# Altium schematic symbol library Schlib.SchLib: 11 symbols
Pins are listed as number, name and electrical type; pins without a type are passive.

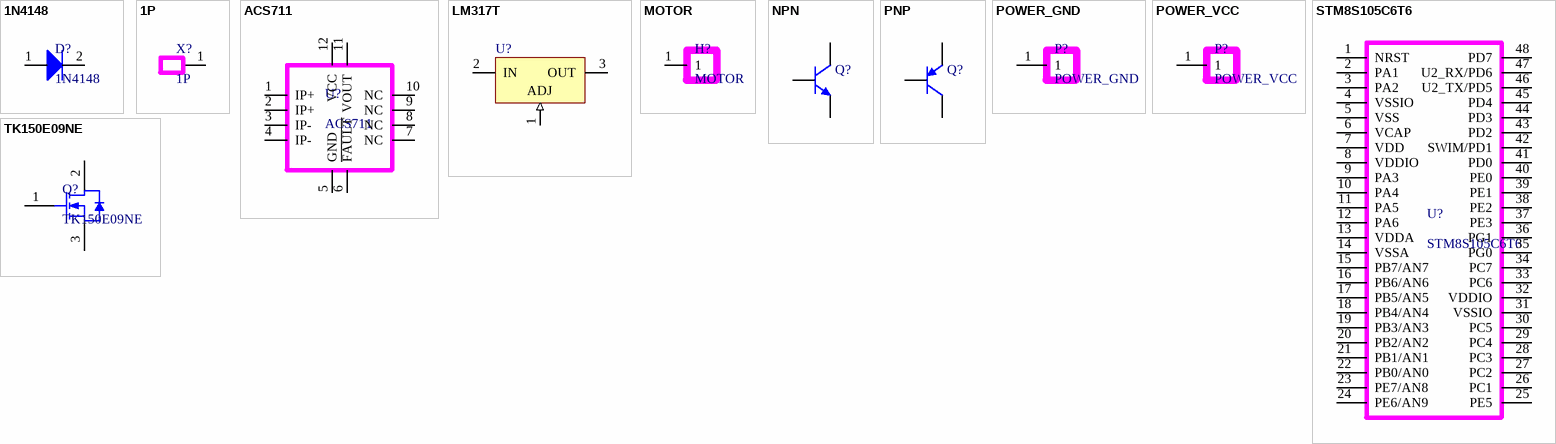
[diagram p0: symbols 1N4148 to TK150E09NE]

## 1N4148
designator D?
footprint SOD80C (Metal Electrode Face (MELF) Diode; Body 3.5 x 1.6 mm (LxDia))
pins: 1, 2

## 1P
designator X?
footprint HDR1X1
pins: 1

## ACS711
designator U?
footprint QFN12
pins: 1 IP+, 2 IP+, 3 IP-, 4 IP-, 5 GND, 6 ~{FAULT}, 7 NC, 8 NC, 9 NC, 10 NC, 11 VOUT, 12 VCC

## LM317T
designator U?
1.2V to 37V Voltage Regulator; Note: Tab is connected to pin 3 (OUT).; Published: 24-Aug-2001; LatestRevisionDate: 17-Jul-2002; LatestRevisionNote: Re-released for DXP Platform.; DatasheetVersion: Nov-1999; PackageVersion: Jun-1998; PackageReference: TO220ABN; Publisher: Altium Limited; PackageDescription: TO, Thru-Hole, Vertical, Heatsink Mounted; 3 In-Line Leads; Pitch 2.54 mm; Pin sequence 1, 3, 2; ComponentLink1Description: Manufacturer Link; ComponentLink1URL: http://www.st.com/; ComponentLink2Description: Datasheet; ComponentLink2URL: http://www.st.com/stonline/products/literature/ds/2154/lm117.pdf
footprint TO220ABN (TO, Thru-Hole, Vertical, Heatsink Mounted; 3 In-Line Leads; Pitch 2.54 mm; Pin sequence 1, 3, 2)
pins: 1 ADJ (in), 2 IN (power), 3 OUT (power)

## MOTOR
designator H?
footprint MOTOR
pins: 1

## NPN
designator Q?
NPN Bipolar Transistor; Published: 8-Jun-2000; LatestRevisionDate: 17-Jul-2002; LatestRevisionNote: Re-released for DXP Platform.; PackageReference: TO-226-AA; Publisher: Altium Limited; PackageDescription: TO, Flat Index; 3 In-Line, Axial Leads; Body Dia. 4.8mm; Leads 0.55 x 0.51 mm (max); Code_JEDEC: TO-226-AA
footprint SOT23
simulation model NPN
signal-integrity model NPN
pins: 1 C, 2 B, 3 E

## PNP
designator Q?
PNP Bipolar Transistor; Published: 8-Jun-2000; LatestRevisionDate: 29-May-2009; LatestRevisionNote: IPC-7351 Footprint Added.; PackageVersion: Aug-1999; PackageReference: SOT-23B; Publisher: Altium Limited; PackageDescription: 3-Pin SOT-23 Package 0.95 mm Pitch, 2.4 mm Lead Span
simulation model PNP
signal-integrity model PNP
footprint SOT23
pins: 1 C, 2 B, 3 E

## POWER_GND
designator P?
footprint POWER
pins: 1

## POWER_VCC
designator P?
footprint POWER
pins: 1

## STM8S105C6T6
designator U?
footprint TQFP-48
pins: 1 NRST, 2 PA1, 3 PA2, 4 VSSIO, 5 VSS, 6 VCAP, 7 VDD, 8 VDDIO, 9 PA3, 10 PA4, 11 PA5, 12 PA6, 13 VDDA, 14 VSSA, 15 PB7/AN7, 16 PB6/AN6, 17 PB5/AN5, 18 PB4/AN4, 19 PB3/AN3, 20 PB2/AN2, 21 PB1/AN1, 22 PB0/AN0, 23 PE7/AN8, 24 PE6/AN9, 25 PE5, 26 PC1, 27 PC2, 28 PC3, 29 PC4, 30 PC5, 31 VSSIO, 32 VDDIO, 33 PC6, 34 PC7, 35 PG0, 36 PG1, 37 PE3, 38 PE2, 39 PE1, 40 PE0, 41 PD0, 42 SWIM/PD1, 43 PD2, 44 PD3, 45 PD4, 46 U2_TX/PD5, 47 U2_RX/PD6, 48 PD7

## TK150E09NE
designator Q?
footprint TO220ABN (TO, Thru-Hole, Vertical, Heatsink Mounted; 3 In-Line Leads; Pitch 2.54 mm; Pin sequence 1, 3, 2)
pins: 1 GATE, 2 DRAIN, 3 SOURCE